# Altium schematic symbol library XRCGB.Schlib: 1 symbol
Pins are listed as number, name and electrical type; pins without a type are passive.

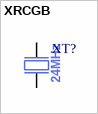
[diagram p0: symbol XRCGB]

## XRCGB
designator XT?  Frequency: 24MHz  (hidden comment: XRCGB)
XRCGB Ceramic Resonator
pins: 1 out, 3 inp